# EAGLE library part GPS (library hgg)
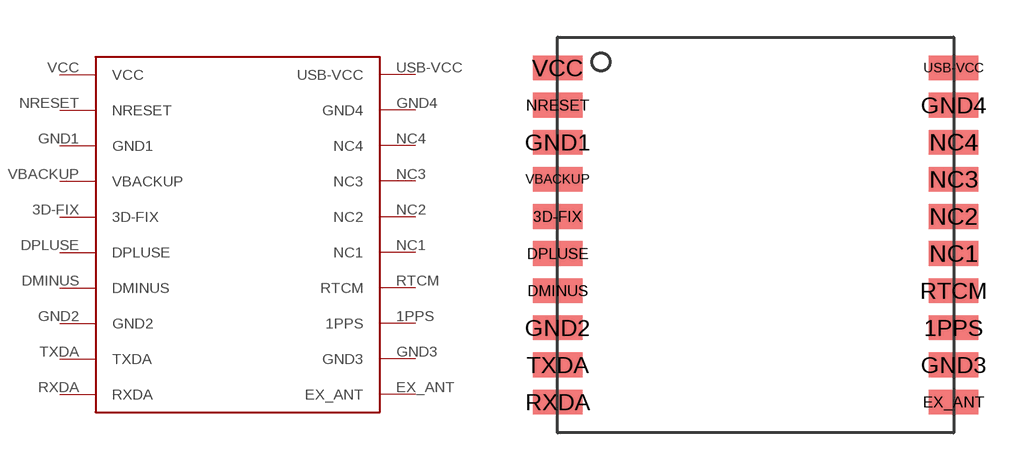
[diagram p1: symbol with the pads of GPS; footprint GPS]

Designator prefix -

## GPS  [GPS]
1PPS  1PPS
3D-FIX  3D-FIX
DMINUS  DMINUS
DPLUSE  DPLUSE
EX_ANT  EX_ANT
GND1  GND1
GND2  GND2
GND3  GND3
GND4  GND4
NC1  NC1
NC2  NC2
NC3  NC3
NC4  NC4
NRESET  NRESET
RTCM  RTCM
RXDA  RXDA
TXDA  TXDA
USB-VCC  USB-VCC
VBACKUP  VBACKUP
VCC  VCC

## Footprint GPS (pad centres in mm)
GPS Module The GlobalTop Gms‐u1LP is an all‐in‐one, high sensitivity, small SMD form factor, and low power consumption GPS antenna module. It utilizes MediaTek GPS MT3329 solution that supports up to 66 channels of satellite searching with ‐165dBm sensitivity and 10Hz maximum update rate for precise GPS signal processing under low receptive, high velocity conditions. Gms‐u1LP comes with the addition of a power saving switching mode power supply (SMPS) that can help reduce the overall GPS power consumption by over 30% when compared to the previous generation. Supplementary to using integrated ceramic patch antenna for reception, Gms‐u1LP also has support for external antenna input with automatic antenna switching once the connection to an external antenna is established and detected. This external antenna I/O pin is short‐circuit protected and will lower voltage to a safe level in the event of short‐circuiting. The major advancement in power saving, coupled with flexible GPS firmware customization for enhancing overall processing efficiency (not included in standard firmware), and its small size and I/O versatility makes this simple‐to‐integrate module the best ideal solution for the next generation of mobile and embedded devices.
smd 2 x 1: 1PPS 8,-3.75; 3D-FIX -8,0.75; DMINUS -8,-2.25; DPLUSE -8,-0.75; EX_ANT 8,-6.75; GND1 -8,3.75; GND2 -8,-3.75; GND3 8,-5.25; GND4 8,5.25; NC1 8,-0.75; NC2 8,0.75; NC3 8,2.25; NC4 8,3.75; NRESET -8,5.25; RTCM 8,-2.25; RXDA -8,-6.75; TXDA -8,-5.25; USB-VCC 8,6.75; VBACKUP -8,2.25; VCC -8,6.75